# EAGLE library part MAX9880A (library pimoroni-ics)
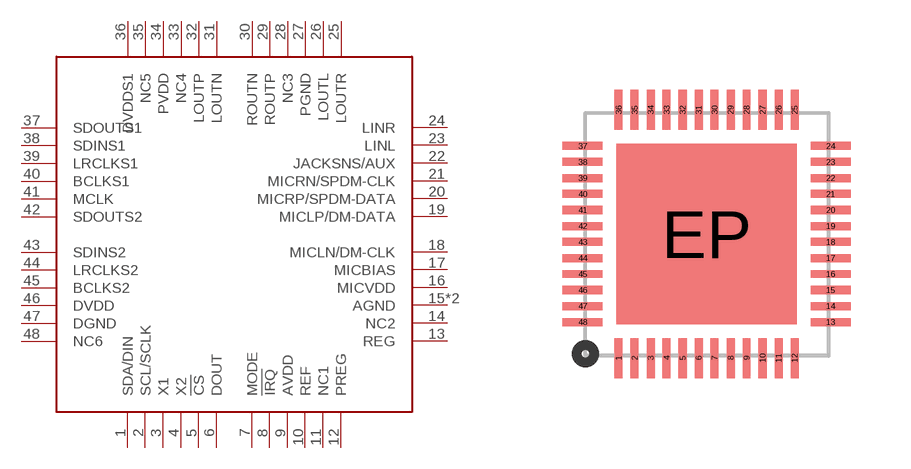
[diagram p95: symbol with the pads of TQFN-48-6X6MM; footprint TQFN-48-6X6MM]

Designator prefix -

## MAX9880A  [TQFN-48-6X6MM]
1  SDA/DIN
2  SCL/SCLK
3  X1
4  X2
5  !CS
6  DOUT
7  MODE
8  !IRQ
9  AVDD
10  REF
11  NC1
12  PREG
13  REG
14  NC2
15  AGND
16  MICVDD
17  MICBIAS
18  MICLN/DM-CLK
19  MICLP/DM-DATA
20  MICRP/SPDM-DATA
21  MICRN/SPDM-CLK
22  JACKSNS/AUX
23  LINL
24  LINR
25  LOUTR
26  LOUTL
27  PGND
28  NC3
29  ROUTP
30  ROUTN
31  LOUTN
32  LOUTP
33  NC4
34  PVDD
35  NC5
36  DVDDS1
37  SDOUTS1
38  SDINS1
39  LRCLKS1
40  BCLKS1
41  MCLK
42  SDOUTS2
43  SDINS2
44  LRCLKS2
45  BCLKS2
46  DVDD
47  DGND
48  NC6
EP  AGND

## Footprint TQFN-48-6X6MM (pad centres in mm)
RSB (S-PWQFN-N40) Set restring parameter in design rules to 0, for top, inner, bottom at minimum and %. Source: RSB_TPS65023RSB_Land_Pattern.pdf
smd 0.2 x 1: 1 -2.2,-3.1; 2 -1.8,-3.1; 3 -1.4,-3.1; 4 -1,-3.1; 5 -0.6,-3.1; 6 -0.2,-3.1; 7 0.2,-3.1; 8 0.6,-3.1; 9 1,-3.1; 10 1.4,-3.1; 11 1.8,-3.1; 12 2.2,-3.1; 25 2.2,3.1; 26 1.8,3.1; 27 1.4,3.1; 28 1,3.1; 29 0.6,3.1; 30 0.2,3.1; 31 -0.2,3.1; 32 -0.6,3.1; 33 -1,3.1; 34 -1.4,3.1; 35 -1.8,3.1; 36 -2.2,3.1
smd 1 x 0.2: 13 3.1,-2.2; 14 3.1,-1.8; 15 3.1,-1.4; 16 3.1,-1; 17 3.1,-0.6; 18 3.1,-0.2; 19 3.1,0.2; 20 3.1,0.6; 21 3.1,1; 22 3.1,1.4; 23 3.1,1.8; 24 3.1,2.2; 37 -3.1,2.2; 38 -3.1,1.8; 39 -3.1,1.4; 40 -3.1,1; 41 -3.1,0.6; 42 -3.1,0.2; 43 -3.1,-0.2; 44 -3.1,-0.6; 45 -3.1,-1; 46 -3.1,-1.4; 47 -3.1,-1.8; 48 -3.1,-2.2
smd 4.5 x 4.5: EP 0,0